# EAGLE library part 1X10_5.08MM (library DECADE-libraries20151104)
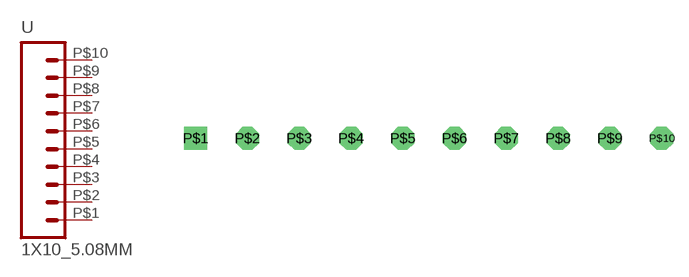
[diagram p128: symbol with the pads of COM-N_5.08MM; footprint COM-N_5.08MM]

Designator prefix -

## 1X10_5.08MM  [COM-N_5.08MM]
P$1  1  pas
P$2  2  pas
P$3  3  pas
P$4  4  pas
P$5  5  pas
P$6  6  pas
P$7  7  pas
P$8  8  pas
P$9  9  pas
P$10  10  pas

## Footprint COM-N_5.08MM (pad centres in mm)
drill 1.5 square: P$1 0,0
drill 1.5 octagon: P$2 5.08,0; P$3 10.16,0; P$4 15.24,0; P$5 20.32,0; P$6 25.4,0; P$7 30.48,0; P$8 35.56,0; P$9 40.64,0; P$10 45.72,0